# Altium schematic symbol library ngh-util.SchLib: 3 symbols
Pins are listed as number, name and electrical type; pins without a type are passive.

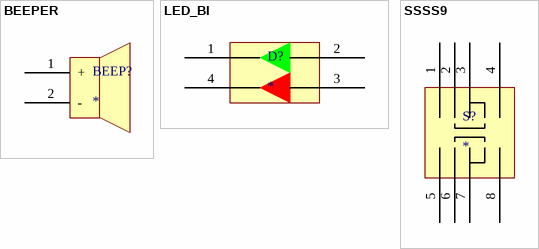
[diagram p0: symbols BEEPER to SSSS9]

## BEEPER
designator BEEP?
footprint BEEPER
pins: 1 +, 2 -

## LED_BI
designator D?
footprint LED_BI
pins: 1, 2, 3, 4

## SSSS9
designator S?
footprint SSSS9_5mm_H
pins: 1, 2, 3, 4, 5, 6, 7, 8